# Altium schematic symbol library TM1638.Schlib: 1 symbol
Pins are listed as number, name and electrical type; pins without a type are passive.

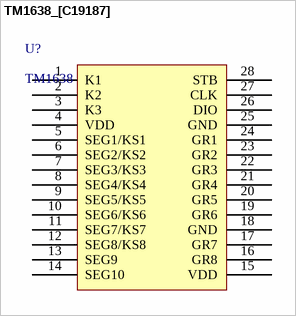
[diagram p0: symbol TM1638_[C19187]]

## TM1638_[C19187]
designator U?, comment TM1638
LED驱动
footprint SOIC-28_300mil
pins: 1 K1, 2 K2, 3 K3, 4 VDD, 5 SEG1/KS1, 6 SEG2/KS2, 7 SEG3/KS3, 8 SEG4/KS4, 9 SEG5/KS5, 10 SEG6/KS6, 11 SEG7/KS7, 12 SEG8/KS8, 13 SEG9, 14 SEG10, 15 VDD, 16 GR8, 17 GR7, 18 GND, 19 GR6, 20 GR5, 21 GR4, 22 GR3, 23 GR2, 24 GR1, 25 GND, 26 DIO, 27 CLK, 28 STB